# EAGLE library part RELAY_351 (library RELAY_ModuleV_1.0)
RELAY 2 x switch, Omron
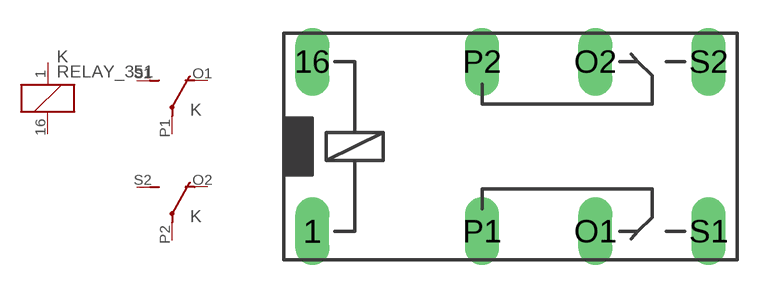
[diagram p1: symbol with the pads of RELAY_351; footprint RELAY_351]

Designator prefix K; gates 1=RELAY_K 2=RELAY_U 3=RELAY_U

## RELAY_351 (OC_FARNELL: unknown; OC_NEWARK: unknown)  [RELAY_351]
1  1:1  pas
16  1:2  pas
O1  2:O  pas
O2  3:O  pas
P1  2:P  pas
P2  3:P  pas
S1  2:S  pas
S2  3:S  pas

## Footprint RELAY_351 (pad centres in mm)
RELAY 2 x switch, same as G5 V-2, Omron
drill 1.016 long: 1 -3.81,-3.81; 16 -3.81,3.81; O1 8.89,-3.81; O2 8.89,3.81; P1 3.81,-3.81; P2 3.81,3.81; S1 13.97,-3.81; S2 13.97,3.81